# Altium schematic symbol library RFConnectors.SchLib: 1 symbol
Pins are listed as number, name and electrical type; pins without a type are passive.

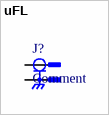
[diagram p0: symbol uFL]

## uFL
designator J?, comment Comment
pins: 1 "Antenna pin", G GND (power) "Chassis Ground"
1 alternate drawing of the same symbol